# EAGLE library part CONNHEADER_SMD_6POS_2.54MM (library Kirbi_ControlBoard)
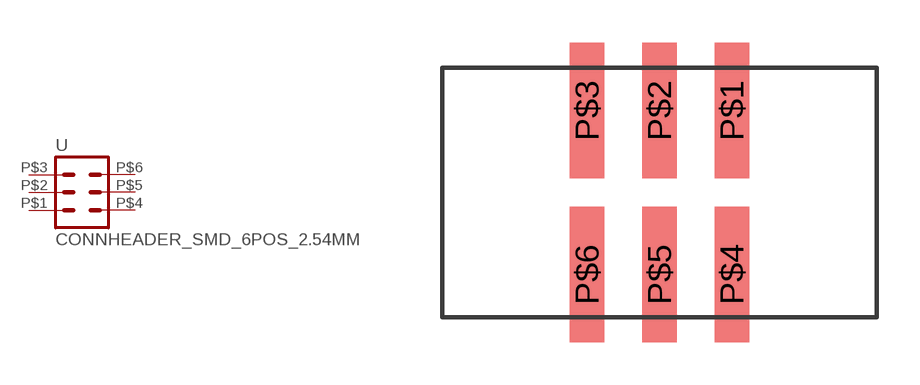
[diagram p4: symbol with the pads of CONNHEADER_SMD_6POS_2.54MM; footprint CONNHEADER_SMD_6POS_2.54MM]

Designator prefix -

## CONNHEADER_SMD_6POS_2.54MM  [CONNHEADER_SMD_6POS_2.54MM]
P$1  2  pas
P$2  4  pas
P$3  6  pas
P$4  1  pas
P$5  3  pas
P$6  5  pas

## Footprint CONNHEADER_SMD_6POS_2.54MM (pad centres in mm)
CONN HEADER SMD 6POS 2.54MM
smd 1.2 x 4.75: P$1 2.54,2.875; P$2 0,2.875; P$3 -2.54,2.875; P$4 2.54,-2.875; P$5 0,-2.875; P$6 -2.54,-2.875